# Altium schematic symbol library PLL.SchLib: 3 symbols
Pins are listed as number, name and electrical type; pins without a type are passive.

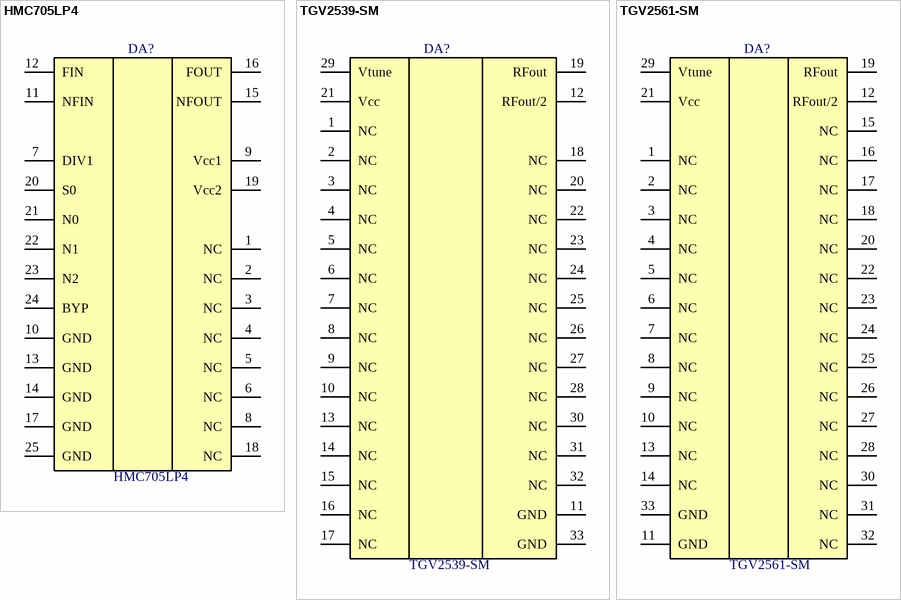
[diagram p0: symbols HMC705LP4 to TGV2561-SM]

## HMC705LP4
designator DA?
6.5 GHz PROGRAMMABLE DIVIDER (N = 1 - 17); PartNumber: HMC705LP4
footprint QFN25P50_400X400X100L40X24T280N (Quad Flat No-Lead (QFN with Tab), 0.50 mm pitch; square, 6 pin X 6 pin, 4.00 mm L X 4.00 mm W X 1.00 mm H body)
pins: 1 NC, 2 NC, 3 NC, 4 NC, 5 NC, 6 NC, 7 DIV1, 8 NC, 9 Vcc1, 10 GND, 11 NFIN, 12 FIN, 13 GND, 14 GND, 15 NFOUT, 16 FOUT, 17 GND, 18 NC, 19 Vcc2, 20 S0, 21 N0, 22 N1, 23 N2, 24 BYP, 25 GND

## TGV2539-SM
designator DA?
10.7 – 11.5 GHz VCO with Divide by 2; PartNumber: TGV2539-SM
footprint QFN33P50_500X500X90L40X25T370N (Quad Flat No-Lead (QFN with Tab), 0.50 mm pitch; square, 8 pin X 8 pin, 5.00 mm L X 5.00 mm W X 0.90 mm H body)
pins: 1 NC, 2 NC, 3 NC, 4 NC, 5 NC, 6 NC, 7 NC, 8 NC, 9 NC, 10 NC, 11 GND, 12 RFout/2, 13 NC, 14 NC, 15 NC, 16 NC, 17 NC, 18 NC, 19 RFout, 20 NC, 21 Vcc, 22 NC, 23 NC, 24 NC, 25 NC, 26 NC, 27 NC, 28 NC, 29 Vtune, 30 NC, 31 NC, 32 NC, 33 GND

## TGV2561-SM
designator DA?
8.9 - 9.8 GHz VCO with Divide by 2; PartNumber: TGV2561-SM
footprint QFN33P50_500X500X90L40X25T370N (Quad Flat No-Lead (QFN with Tab), 0.50 mm pitch; square, 8 pin X 8 pin, 5.00 mm L X 5.00 mm W X 0.90 mm H body)
pins: 1 NC, 2 NC, 3 NC, 4 NC, 5 NC, 6 NC, 7 NC, 8 NC, 9 NC, 10 NC, 11 GND, 12 RFout/2, 13 NC, 14 NC, 15 NC, 16 NC, 17 NC, 18 NC, 19 RFout, 20 NC, 21 Vcc, 22 NC, 23 NC, 24 NC, 25 NC, 26 NC, 27 NC, 28 NC, 29 Vtune, 30 NC, 31 NC, 32 NC, 33 GND